# Altium integrated library Zilog Microprocessor 8-Bit.IntLib: 44 symbols (part 2 of 2)
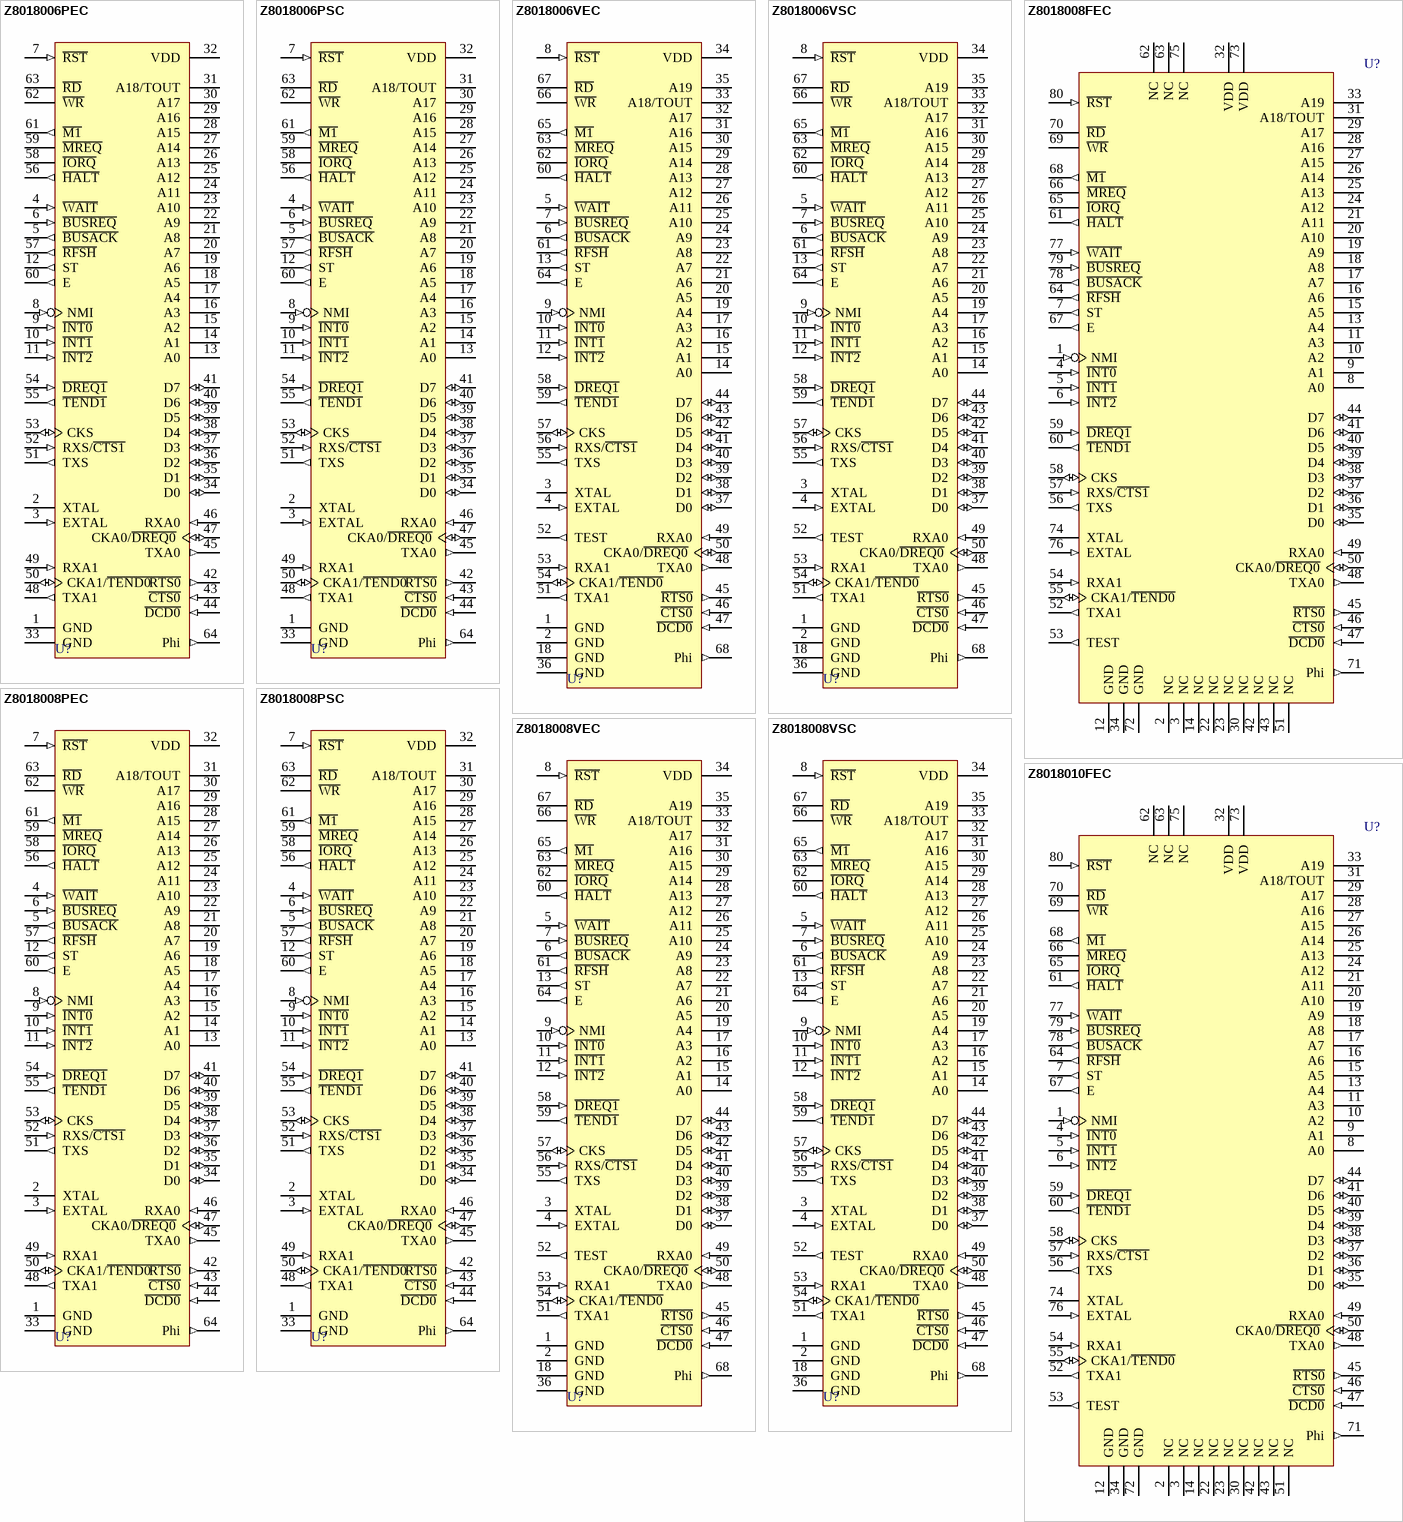
[diagram p4: symbols Z8018006PEC to Z8018010FEC]

## Z8018008PSC
designator U?
8-Bit Microprocessor; Published: 15-Apr-2002; LatestRevisionDate: 04-Mar-2005; LatestRevisionNote: Stylized 3D Model Added.; DatasheetVersion: 2000; PackageVersion: Jan-1989; PackageReference: DIP64; Publisher: Altium Limited; PackageDescription: DIP; 64 Leads; Row Spacing 19.05 mm; Pitch 1.778 mm; ComponentLink1Description: Manufacturer Link; ComponentLink1URL: http://www.zilog.com/; ComponentLink2Description: Datasheet; ComponentLink2URL: http://www.zilog.com/docs/z180/um0050.pdf
footprint DIP64 (DIP; 64 Leads; Row Spacing 19.05 mm; Pitch 1.778 mm)
3D model DIP64 (DIP; 64 Leads; Row Spacing 19.05 mm; Pitch 1.778 mm)
pins: 1 GND (power), 2 XTAL, 3 EXTAL (in), 4 ~{WAIT} (in), 5 ~{BUSACK} (out), 6 ~{BUSREQ} (in), 7 ~{RST} (in), 8 NMI (in), 9 ~{INT0} (in), 10 ~{INT1} (in), 11 ~{INT2} (in), 12 ST (out), 13 A0 (hiz), 14 A1 (hiz), 15 A2 (hiz), 16 A3 (hiz), 17 A4 (hiz), 18 A5 (hiz), 19 A6 (hiz), 20 A7 (hiz), 21 A8 (hiz), 22 A9 (hiz), 23 A10 (hiz), 24 A11 (hiz), 25 A12 (hiz), 26 A13 (hiz), 27 A14 (hiz), 28 A15 (hiz), 29 A16 (hiz), 30 A17 (hiz), 31 A18/TOUT (hiz), 32 VDD (power), 33 GND (power), 34 D0 (io), 35 D1 (io), 36 D2 (io), 37 D3 (io), 38 D4 (io), 39 D5 (io), 40 D6 (io), 41 D7 (io), 42 ~{RTS0} (out), 43 ~{CTS0} (in), 44 ~{DCD0} (in), 45 TXA0 (out), 46 RXA0 (in), 47 CKA0/~{DREQ0} (io), 48 TXA1 (out), 49 RXA1 (in), 50 CKA1/~{TEND0} (io), 51 TXS (out), 52 RXS/~{CTS1} (in), 53 CKS (io), 54 ~{DREQ1} (in), 55 ~{TEND1} (out), 56 ~{HALT} (out), 57 ~{RFSH} (out), 58 ~{IORQ} (hiz), 59 ~{MREQ} (hiz), 60 E (out), 61 ~{M1} (out), 62 ~{WR} (hiz), 63 ~{RD} (hiz), 64 Phi (out)

## Z8018008VEC
designator U?
8-Bit Microprocessor; Published: 15-Apr-2002; LatestRevisionDate: 13-Apr-2006; LatestRevisionNote: IPC-7351 Footprint Added.; DatasheetVersion: 2000; PackageReference: PCC68; Publisher: Altium Limited; PackageDescription: 68-Pin Leaded Chip Carrier 1.27 mm Pitch; Code_IPC: PLCC-68; ComponentLink1Description: Manufacturer Link; ComponentLink1URL: http://www.zilog.com/; ComponentLink2Description: Datasheet; ComponentLink2URL: http://www.zilog.com/docs/z180/um0050.pdf
footprint PCC68_N (Leaded Chip Carrier, 68-Leads, Body 24x24mm, Pitch 1.27mm, IPC Medium Density)
footprint PCC68_L (Leaded Chip Carrier, 68-Leads, Body 24x24mm, Pitch 1.27mm, IPC High Density)
footprint PCC68_M (Leaded Chip Carrier, 68-Leads, Body 24x24mm, Pitch 1.27mm, IPC Low Density)
3D model Z80180-PCC68 (68-Pin Leaded Chip Carrier 1.27 mm Pitch)
pins: 1 GND (power), 2 GND (power), 3 XTAL, 4 EXTAL (in), 5 ~{WAIT} (in), 6 ~{BUSACK} (out), 7 ~{BUSREQ} (in), 8 ~{RST} (in), 9 NMI (in), 10 ~{INT0} (in), 11 ~{INT1} (in), 12 ~{INT2} (in), 13 ST (out), 14 A0 (hiz), 15 A1 (hiz), 16 A2 (hiz), 17 A3 (hiz), 18 GND (power), 19 A4 (hiz), 20 A5 (hiz), 21 A6 (hiz), 22 A7 (hiz), 23 A8 (hiz), 24 A9 (hiz), 25 A10 (hiz), 26 A11 (hiz), 27 A12 (hiz), 28 A13 (hiz), 29 A14 (hiz), 30 A15 (hiz), 31 A16 (hiz), 32 A17 (hiz), 33 A18/TOUT (hiz), 34 VDD (power), 35 A19 (hiz), 36 GND (power), 37 D0 (io), 38 D1 (io), 39 D2 (io), 40 D3 (io), 41 D4 (io), 42 D5 (io), 43 D6 (io), 44 D7 (io), 45 ~{RTS0} (out), 46 ~{CTS0} (in), 47 ~{DCD0} (in), 48 TXA0 (out), 49 RXA0 (in), 50 CKA0/~{DREQ0} (io), 51 TXA1 (out), 52 TEST (out), 53 RXA1 (in), 54 CKA1/~{TEND0} (io), 55 TXS (out), 56 RXS/~{CTS1} (in), 57 CKS (io), 58 ~{DREQ1} (in), 59 ~{TEND1} (out), 60 ~{HALT} (out), 61 ~{RFSH} (out), 62 ~{IORQ} (hiz), 63 ~{MREQ} (hiz), 64 E (out), 65 ~{M1} (out), 66 ~{WR} (hiz), 67 ~{RD} (hiz), 68 Phi (out)

## Z8018008VSC
designator U?
8-Bit Microprocessor; Published: 15-Apr-2002; LatestRevisionDate: 13-Apr-2006; LatestRevisionNote: IPC-7351 Footprint Added.; DatasheetVersion: 2000; PackageReference: PCC68; Publisher: Altium Limited; PackageDescription: 68-Pin Leaded Chip Carrier 1.27 mm Pitch; Code_IPC: PLCC-68; ComponentLink1Description: Manufacturer Link; ComponentLink1URL: http://www.zilog.com/; ComponentLink2Description: Datasheet; ComponentLink2URL: http://www.zilog.com/docs/z180/um0050.pdf
footprint PCC68_N (Leaded Chip Carrier, 68-Leads, Body 24x24mm, Pitch 1.27mm, IPC Medium Density)
footprint PCC68_L (Leaded Chip Carrier, 68-Leads, Body 24x24mm, Pitch 1.27mm, IPC High Density)
footprint PCC68_M (Leaded Chip Carrier, 68-Leads, Body 24x24mm, Pitch 1.27mm, IPC Low Density)
3D model Z80180-PCC68 (68-Pin Leaded Chip Carrier 1.27 mm Pitch)
pins: 1 GND (power), 2 GND (power), 3 XTAL, 4 EXTAL (in), 5 ~{WAIT} (in), 6 ~{BUSACK} (out), 7 ~{BUSREQ} (in), 8 ~{RST} (in), 9 NMI (in), 10 ~{INT0} (in), 11 ~{INT1} (in), 12 ~{INT2} (in), 13 ST (out), 14 A0 (hiz), 15 A1 (hiz), 16 A2 (hiz), 17 A3 (hiz), 18 GND (power), 19 A4 (hiz), 20 A5 (hiz), 21 A6 (hiz), 22 A7 (hiz), 23 A8 (hiz), 24 A9 (hiz), 25 A10 (hiz), 26 A11 (hiz), 27 A12 (hiz), 28 A13 (hiz), 29 A14 (hiz), 30 A15 (hiz), 31 A16 (hiz), 32 A17 (hiz), 33 A18/TOUT (hiz), 34 VDD (power), 35 A19 (hiz), 36 GND (power), 37 D0 (io), 38 D1 (io), 39 D2 (io), 40 D3 (io), 41 D4 (io), 42 D5 (io), 43 D6 (io), 44 D7 (io), 45 ~{RTS0} (out), 46 ~{CTS0} (in), 47 ~{DCD0} (in), 48 TXA0 (out), 49 RXA0 (in), 50 CKA0/~{DREQ0} (io), 51 TXA1 (out), 52 TEST (out), 53 RXA1 (in), 54 CKA1/~{TEND0} (io), 55 TXS (out), 56 RXS/~{CTS1} (in), 57 CKS (io), 58 ~{DREQ1} (in), 59 ~{TEND1} (out), 60 ~{HALT} (out), 61 ~{RFSH} (out), 62 ~{IORQ} (hiz), 63 ~{MREQ} (hiz), 64 E (out), 65 ~{M1} (out), 66 ~{WR} (hiz), 67 ~{RD} (hiz), 68 Phi (out)

## Z8018010FEC
designator U?
8-Bit Microprocessor; Published: 15-Apr-2002; LatestRevisionDate: 13-Apr-2006; LatestRevisionNote: IPC-7351 Footprint Added.; DatasheetVersion: 2000; PackageReference: RQFP80; Publisher: Altium Limited; PackageDescription: 80-Pin Quad Flat Pack Rectangular 0.8 mm Pitch; ComponentLink1Description: Manufacturer Link; ComponentLink1URL: http://www.zilog.com/; ComponentLink2Description: Datasheet; ComponentLink2URL: http://www.zilog.com/docs/z180/um0050.pdf
footprint RQFP80_N (QFP, 80-Leads, Body 20x14mm, Pitch 0.8mm, IPC Medium Density)
footprint RQFP80_L (QFP, 80-Leads, Body 20x14mm, Pitch 0.8mm, IPC High Density)
footprint RQFP80_M (QFP, 80-Leads, Body 20x14mm, Pitch 0.8mm, IPC Low Density)
3D model Z80180-RQFP80 (80-Pin Quad Flat Pack Rectangular 0.8 mm Pitch)
pins: 1 NMI (in), 2 NC, 3 NC, 4 ~{INT0} (in), 5 ~{INT1} (in), 6 ~{INT2} (in), 7 ST (out), 8 A0 (hiz), 9 A1 (hiz), 10 A2 (hiz), 11 A3 (hiz), 12 GND (power), 13 A4 (hiz), 14 NC, 15 A5 (hiz), 16 A6 (hiz), 17 A7 (hiz), 18 A8 (hiz), 19 A9 (hiz), 20 A10 (hiz), 21 A11 (hiz), 22 NC, 23 NC, 24 A12 (hiz), 25 A13 (hiz), 26 A14 (hiz), 27 A15 (hiz), 28 A16 (hiz), 29 A17 (hiz), 30 NC, 31 A18/TOUT (hiz), 32 VDD (power), 33 A19 (hiz), 34 GND (power), 35 D0 (io), 36 D1 (io), 37 D2 (io), 38 D3 (io), 39 D4 (io), 40 D5 (io), 41 D6 (io), 42 NC, 43 NC, 44 D7 (io), 45 ~{RTS0} (out), 46 ~{CTS0} (in), 47 ~{DCD0} (in), 48 TXA0 (out), 49 RXA0 (in), 50 CKA0/~{DREQ0} (io), 51 NC, 52 TXA1 (out), 53 TEST (out), 54 RXA1 (in), 55 CKA1/~{TEND0} (io), 56 TXS (out), 57 RXS/~{CTS1} (in), 58 CKS (io), 59 ~{DREQ1} (in), 60 ~{TEND1} (out), 61 ~{HALT} (out), 62 NC, 63 NC, 64 ~{RFSH} (out), 65 ~{IORQ} (hiz), 66 ~{MREQ} (hiz), 67 E (out), 68 ~{M1} (out), 69 ~{WR} (hiz), 70 ~{RD} (hiz), 71 Phi (out), 72 GND (power), 73 VDD (power), 74 XTAL, 75 NC, 76 EXTAL (in), 77 ~{WAIT} (in), 78 ~{BUSACK} (out), 79 ~{BUSREQ} (in), 80 ~{RST} (in)

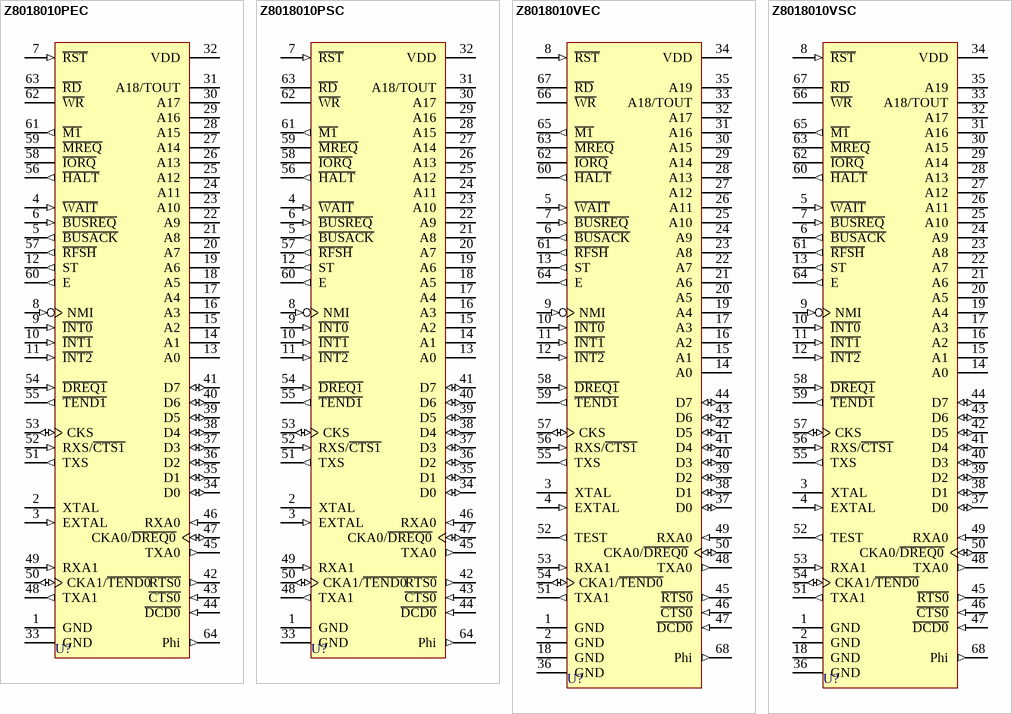
[diagram p3: symbols Z8018010PEC to Z8018010VSC]

## Z8018010PEC
designator U?
8-Bit Microprocessor; Published: 15-Apr-2002; LatestRevisionDate: 04-Mar-2005; LatestRevisionNote: Stylized 3D Model Added.; DatasheetVersion: 2000; PackageVersion: Jan-1989; PackageReference: DIP64; Publisher: Altium Limited; PackageDescription: DIP; 64 Leads; Row Spacing 19.05 mm; Pitch 1.778 mm; ComponentLink1Description: Manufacturer Link; ComponentLink1URL: http://www.zilog.com/; ComponentLink2Description: Datasheet; ComponentLink2URL: http://www.zilog.com/docs/z180/um0050.pdf
footprint DIP64 (DIP; 64 Leads; Row Spacing 19.05 mm; Pitch 1.778 mm)
3D model DIP64 (DIP; 64 Leads; Row Spacing 19.05 mm; Pitch 1.778 mm)
pins: 1 GND (power), 2 XTAL, 3 EXTAL (in), 4 ~{WAIT} (in), 5 ~{BUSACK} (out), 6 ~{BUSREQ} (in), 7 ~{RST} (in), 8 NMI (in), 9 ~{INT0} (in), 10 ~{INT1} (in), 11 ~{INT2} (in), 12 ST (out), 13 A0 (hiz), 14 A1 (hiz), 15 A2 (hiz), 16 A3 (hiz), 17 A4 (hiz), 18 A5 (hiz), 19 A6 (hiz), 20 A7 (hiz), 21 A8 (hiz), 22 A9 (hiz), 23 A10 (hiz), 24 A11 (hiz), 25 A12 (hiz), 26 A13 (hiz), 27 A14 (hiz), 28 A15 (hiz), 29 A16 (hiz), 30 A17 (hiz), 31 A18/TOUT (hiz), 32 VDD (power), 33 GND (power), 34 D0 (io), 35 D1 (io), 36 D2 (io), 37 D3 (io), 38 D4 (io), 39 D5 (io), 40 D6 (io), 41 D7 (io), 42 ~{RTS0} (out), 43 ~{CTS0} (in), 44 ~{DCD0} (in), 45 TXA0 (out), 46 RXA0 (in), 47 CKA0/~{DREQ0} (io), 48 TXA1 (out), 49 RXA1 (in), 50 CKA1/~{TEND0} (io), 51 TXS (out), 52 RXS/~{CTS1} (in), 53 CKS (io), 54 ~{DREQ1} (in), 55 ~{TEND1} (out), 56 ~{HALT} (out), 57 ~{RFSH} (out), 58 ~{IORQ} (hiz), 59 ~{MREQ} (hiz), 60 E (out), 61 ~{M1} (out), 62 ~{WR} (hiz), 63 ~{RD} (hiz), 64 Phi (out)

## Z8018010PSC
designator U?
8-Bit Microprocessor; Published: 15-Apr-2002; LatestRevisionDate: 04-Mar-2005; LatestRevisionNote: Stylized 3D Model Added.; DatasheetVersion: 2000; PackageVersion: Jan-1989; PackageReference: DIP64; Publisher: Altium Limited; PackageDescription: DIP; 64 Leads; Row Spacing 19.05 mm; Pitch 1.778 mm; ComponentLink1Description: Manufacturer Link; ComponentLink1URL: http://www.zilog.com/; ComponentLink2Description: Datasheet; ComponentLink2URL: http://www.zilog.com/docs/z180/um0050.pdf
footprint DIP64 (DIP; 64 Leads; Row Spacing 19.05 mm; Pitch 1.778 mm)
3D model DIP64 (DIP; 64 Leads; Row Spacing 19.05 mm; Pitch 1.778 mm)
pins: 1 GND (power), 2 XTAL, 3 EXTAL (in), 4 ~{WAIT} (in), 5 ~{BUSACK} (out), 6 ~{BUSREQ} (in), 7 ~{RST} (in), 8 NMI (in), 9 ~{INT0} (in), 10 ~{INT1} (in), 11 ~{INT2} (in), 12 ST (out), 13 A0 (hiz), 14 A1 (hiz), 15 A2 (hiz), 16 A3 (hiz), 17 A4 (hiz), 18 A5 (hiz), 19 A6 (hiz), 20 A7 (hiz), 21 A8 (hiz), 22 A9 (hiz), 23 A10 (hiz), 24 A11 (hiz), 25 A12 (hiz), 26 A13 (hiz), 27 A14 (hiz), 28 A15 (hiz), 29 A16 (hiz), 30 A17 (hiz), 31 A18/TOUT (hiz), 32 VDD (power), 33 GND (power), 34 D0 (io), 35 D1 (io), 36 D2 (io), 37 D3 (io), 38 D4 (io), 39 D5 (io), 40 D6 (io), 41 D7 (io), 42 ~{RTS0} (out), 43 ~{CTS0} (in), 44 ~{DCD0} (in), 45 TXA0 (out), 46 RXA0 (in), 47 CKA0/~{DREQ0} (io), 48 TXA1 (out), 49 RXA1 (in), 50 CKA1/~{TEND0} (io), 51 TXS (out), 52 RXS/~{CTS1} (in), 53 CKS (io), 54 ~{DREQ1} (in), 55 ~{TEND1} (out), 56 ~{HALT} (out), 57 ~{RFSH} (out), 58 ~{IORQ} (hiz), 59 ~{MREQ} (hiz), 60 E (out), 61 ~{M1} (out), 62 ~{WR} (hiz), 63 ~{RD} (hiz), 64 Phi (out)

## Z8018010VEC
designator U?
8-Bit Microprocessor; Published: 15-Apr-2002; LatestRevisionDate: 13-Apr-2006; LatestRevisionNote: IPC-7351 Footprint Added.; DatasheetVersion: 2000; PackageReference: PCC68; Publisher: Altium Limited; PackageDescription: 68-Pin Leaded Chip Carrier 1.27 mm Pitch; Code_IPC: PLCC-68; ComponentLink1Description: Manufacturer Link; ComponentLink1URL: http://www.zilog.com/; ComponentLink2Description: Datasheet; ComponentLink2URL: http://www.zilog.com/docs/z180/um0050.pdf
footprint PCC68_N (Leaded Chip Carrier, 68-Leads, Body 24x24mm, Pitch 1.27mm, IPC Medium Density)
footprint PCC68_L (Leaded Chip Carrier, 68-Leads, Body 24x24mm, Pitch 1.27mm, IPC High Density)
footprint PCC68_M (Leaded Chip Carrier, 68-Leads, Body 24x24mm, Pitch 1.27mm, IPC Low Density)
3D model Z80180-PCC68 (68-Pin Leaded Chip Carrier 1.27 mm Pitch)
pins: 1 GND (power), 2 GND (power), 3 XTAL, 4 EXTAL (in), 5 ~{WAIT} (in), 6 ~{BUSACK} (out), 7 ~{BUSREQ} (in), 8 ~{RST} (in), 9 NMI (in), 10 ~{INT0} (in), 11 ~{INT1} (in), 12 ~{INT2} (in), 13 ST (out), 14 A0 (hiz), 15 A1 (hiz), 16 A2 (hiz), 17 A3 (hiz), 18 GND (power), 19 A4 (hiz), 20 A5 (hiz), 21 A6 (hiz), 22 A7 (hiz), 23 A8 (hiz), 24 A9 (hiz), 25 A10 (hiz), 26 A11 (hiz), 27 A12 (hiz), 28 A13 (hiz), 29 A14 (hiz), 30 A15 (hiz), 31 A16 (hiz), 32 A17 (hiz), 33 A18/TOUT (hiz), 34 VDD (power), 35 A19 (hiz), 36 GND (power), 37 D0 (io), 38 D1 (io), 39 D2 (io), 40 D3 (io), 41 D4 (io), 42 D5 (io), 43 D6 (io), 44 D7 (io), 45 ~{RTS0} (out), 46 ~{CTS0} (in), 47 ~{DCD0} (in), 48 TXA0 (out), 49 RXA0 (in), 50 CKA0/~{DREQ0} (io), 51 TXA1 (out), 52 TEST (out), 53 RXA1 (in), 54 CKA1/~{TEND0} (io), 55 TXS (out), 56 RXS/~{CTS1} (in), 57 CKS (io), 58 ~{DREQ1} (in), 59 ~{TEND1} (out), 60 ~{HALT} (out), 61 ~{RFSH} (out), 62 ~{IORQ} (hiz), 63 ~{MREQ} (hiz), 64 E (out), 65 ~{M1} (out), 66 ~{WR} (hiz), 67 ~{RD} (hiz), 68 Phi (out)

## Z8018010VSC
designator U?
8-Bit Microprocessor; Published: 15-Apr-2002; LatestRevisionDate: 13-Apr-2006; LatestRevisionNote: IPC-7351 Footprint Added.; DatasheetVersion: 2000; PackageReference: PCC68; Publisher: Altium Limited; PackageDescription: 68-Pin Leaded Chip Carrier 1.27 mm Pitch; Code_IPC: PLCC-68; ComponentLink1Description: Manufacturer Link; ComponentLink1URL: http://www.zilog.com/; ComponentLink2Description: Datasheet; ComponentLink2URL: http://www.zilog.com/docs/z180/um0050.pdf
footprint PCC68_N (Leaded Chip Carrier, 68-Leads, Body 24x24mm, Pitch 1.27mm, IPC Medium Density)
footprint PCC68_L (Leaded Chip Carrier, 68-Leads, Body 24x24mm, Pitch 1.27mm, IPC High Density)
footprint PCC68_M (Leaded Chip Carrier, 68-Leads, Body 24x24mm, Pitch 1.27mm, IPC Low Density)
3D model Z80180-PCC68 (68-Pin Leaded Chip Carrier 1.27 mm Pitch)
pins: 1 GND (power), 2 GND (power), 3 XTAL, 4 EXTAL (in), 5 ~{WAIT} (in), 6 ~{BUSACK} (out), 7 ~{BUSREQ} (in), 8 ~{RST} (in), 9 NMI (in), 10 ~{INT0} (in), 11 ~{INT1} (in), 12 ~{INT2} (in), 13 ST (out), 14 A0 (hiz), 15 A1 (hiz), 16 A2 (hiz), 17 A3 (hiz), 18 GND (power), 19 A4 (hiz), 20 A5 (hiz), 21 A6 (hiz), 22 A7 (hiz), 23 A8 (hiz), 24 A9 (hiz), 25 A10 (hiz), 26 A11 (hiz), 27 A12 (hiz), 28 A13 (hiz), 29 A14 (hiz), 30 A15 (hiz), 31 A16 (hiz), 32 A17 (hiz), 33 A18/TOUT (hiz), 34 VDD (power), 35 A19 (hiz), 36 GND (power), 37 D0 (io), 38 D1 (io), 39 D2 (io), 40 D3 (io), 41 D4 (io), 42 D5 (io), 43 D6 (io), 44 D7 (io), 45 ~{RTS0} (out), 46 ~{CTS0} (in), 47 ~{DCD0} (in), 48 TXA0 (out), 49 RXA0 (in), 50 CKA0/~{DREQ0} (io), 51 TXA1 (out), 52 TEST (out), 53 RXA1 (in), 54 CKA1/~{TEND0} (io), 55 TXS (out), 56 RXS/~{CTS1} (in), 57 CKS (io), 58 ~{DREQ1} (in), 59 ~{TEND1} (out), 60 ~{HALT} (out), 61 ~{RFSH} (out), 62 ~{IORQ} (hiz), 63 ~{MREQ} (hiz), 64 E (out), 65 ~{M1} (out), 66 ~{WR} (hiz), 67 ~{RD} (hiz), 68 Phi (out)